# Altium schematic symbol library ADP191ACBZ-R7.SchLib: 1 symbol
Pins are listed as number, name and electrical type; pins without a type are passive.

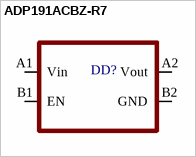
[diagram p0: symbol ADP191ACBZ-R7]

## ADP191ACBZ-R7
designator DD?
pins: A1 Vin, A2 Vout, B1 EN, B2 GND